# Altium schematic symbol library Common Mode Choke.SchLib: 36 symbols
Pins are listed as number, name and electrical type; pins without a type are passive.

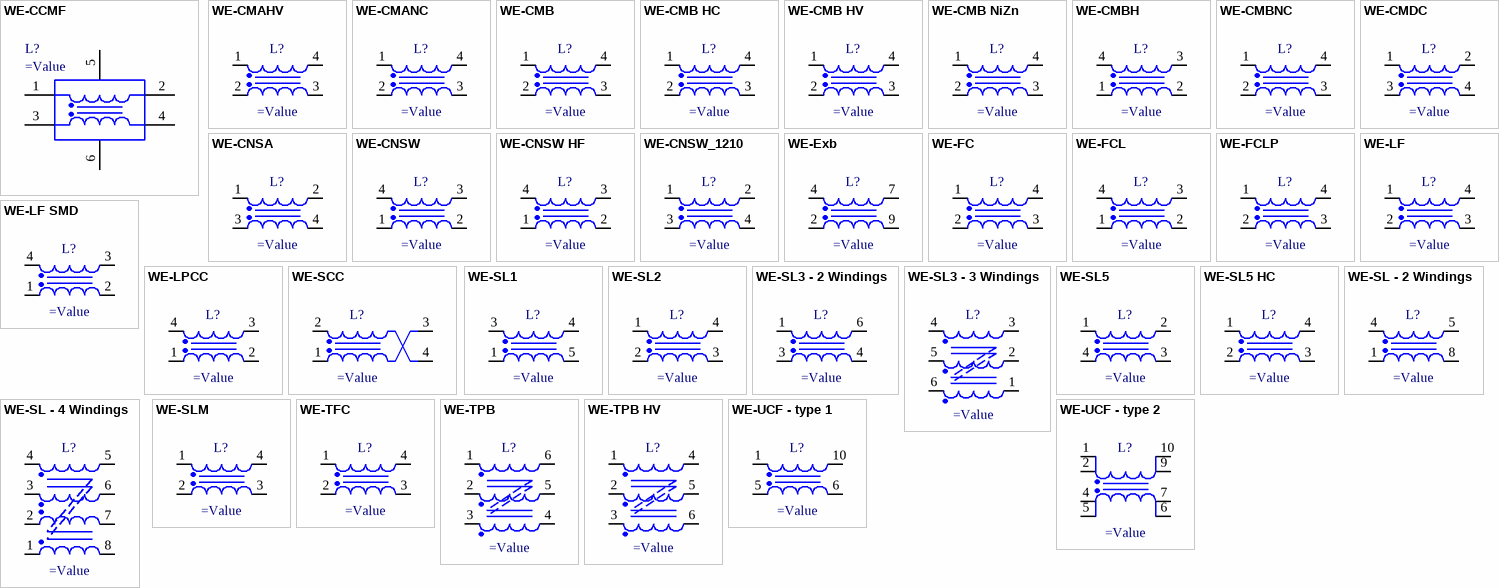
[diagram p0: symbols WE-CCMF to WE-UCF - type 2]

## WE-CCMF
designator L?
pins: 1, 2, 3, 4, 5 GND, 6 GND

## WE-CMAHV
designator L?
pins: 1, 2, 3, 4

## WE-CMANC
designator L?
pins: 1, 2, 3, 4

## WE-CMB
designator L?
pins: 1, 2, 3, 4

## WE-CMB HC
designator L?
pins: 1, 2, 3, 4

## WE-CMB HV
designator L?
pins: 1, 2, 3, 4

## WE-CMB NiZn
designator L?
pins: 1, 2, 3, 4

## WE-CMBH
designator L?
pins: 1, 2, 3, 4

## WE-CMBNC
designator L?
pins: 1, 2, 3, 4

## WE-CMDC
designator L?
pins: 1, 2, 3, 4

## WE-CNSA
designator L?
pins: 1, 2, 3, 4

## WE-CNSW
designator L?
pins: 1, 2, 3, 4

## WE-CNSW HF
designator L?
pins: 1, 2, 3, 4

## WE-CNSW_1210
designator L?
pins: 1, 2, 3, 4

## WE-Exb
designator L?
pins: 2, 4, 7, 9

## WE-FC
designator L?
pins: 1, 2, 3, 4

## WE-FCL
designator L?
pins: 1, 2, 3, 4

## WE-FCLP
designator L?
pins: 1, 2, 3, 4

## WE-LF
designator L?
pins: 1, 2, 3, 4

## WE-LF SMD
designator L?
pins: 1, 2, 3, 4

## WE-LPCC
designator L?
pins: 1, 2, 3, 4

## WE-SCC
designator L?
pins: 1, 2, 3, 4

## WE-SL1
designator L?
pins: 1, 3, 4, 5

## WE-SL2
designator L?
pins: 1, 2, 3, 4

## WE-SL3 - 2 Windings
designator L?
pins: 1, 3, 4, 6

## WE-SL3 - 3 Windings
designator L?
pins: 1, 2, 3, 4, 5, 6

## WE-SL5
designator L?
pins: 1, 2, 3, 4

## WE-SL5 HC
designator L?
pins: 1, 2, 3, 4

## WE-SL - 2 Windings
designator L?
pins: 1, 4, 5, 8

## WE-SL - 4 Windings
designator L?
pins: 1, 2, 3, 4, 5, 6, 7, 8

## WE-SLM
designator L?
pins: 1, 2, 3, 4

## WE-TFC
designator L?
pins: 1, 2, 3, 4

## WE-TPB
designator L?
pins: 1, 2, 3, 4, 5, 6

## WE-TPB HV
designator L?
pins: 1, 2, 3, 4, 5, 6

## WE-UCF - type 1
designator L?
pins: 1, 5, 6, 10

## WE-UCF - type 2
designator L?
pins: 1, 2, 4, 5, 6, 7, 9, 10